# Altium schematic symbol library CTSC3S.Schlib: 1 symbol
Pins are listed as number, name and electrical type; pins without a type are passive.

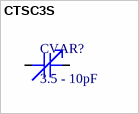
[diagram p0: symbol CTSC3S]

## CTSC3S
designator CVAR?, comment 3.5 - 10pF
3.5 - 10pF, 50V; ComponentLink1Description: Datasheet; ComponentLink1URL: https://store.comet.bg/download-file.php?id=2362; Value: 3.5 - 10pF
footprint CTSC3S (SMT Trimmer Capacitor)
pins: 1, 2